# EAGLE library part G5V-1 (library 4534)
Omron G5V-1-DC5 Relay
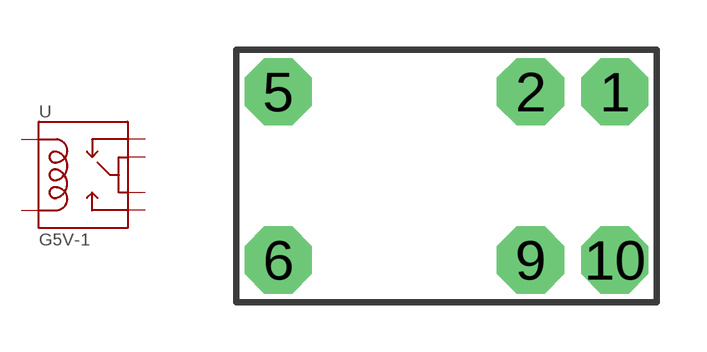
[diagram p12: symbol with the pads of G5V-1; footprint G5V-1]

Designator prefix -

## G5V-1-DC5  [G5V-1]
1  1
2  2
5  5
6  6
9  9
10  10

## Footprint G5V-1 (pad centres in mm)
drill 1.016 pad 2.032 octagon: 1 5.08,2.54; 2 2.54,2.54; 5 -5.08,2.54; 6 -5.08,-2.54; 9 2.54,-2.54; 10 5.08,-2.54